# Altium integrated library PJ-035C.IntLib: 1 symbol
Pins are listed as number, name and electrical type; pins without a type are passive.

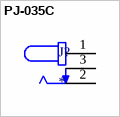
[diagram p0: symbol PJ-035C]

## PJ-035C
designator J?
1.0 x 3.8 mm, 2.0 A, Horizontal, Through Hole, Dc Power Jack Connector; MF: CUI Devices; MP: PJ-035C; CUI_purchase_URL: https://www.cuidevices.com/product/interconnect/connectors/dc-power-connectors/jacks/pj-035c?utm_source=snapeda.com&utm_medium=referral&utm_campaign=snapedaBOM; Purchase-URL: https://pricing.snapeda.com/search/part/PJ-035C/?ref=eda; Digi-Key_Part_Number: CP-035C-ND; SnapEDA_Link: https://www.snapeda.com/parts/PJ-035C/CUI+Devices/view-part/?ref=snap; Value: *; Check_prices: https://www.snapeda.com/parts/PJ-035C/CUI+Devices/view-part/?ref=eda; Package: None
footprint CUI_PJ-035C
pins: 1, 2, 3